# EAGLE library part WIPHONE_DAUGHTERBOARD (library DaughterBoard Footprint-v0.1)
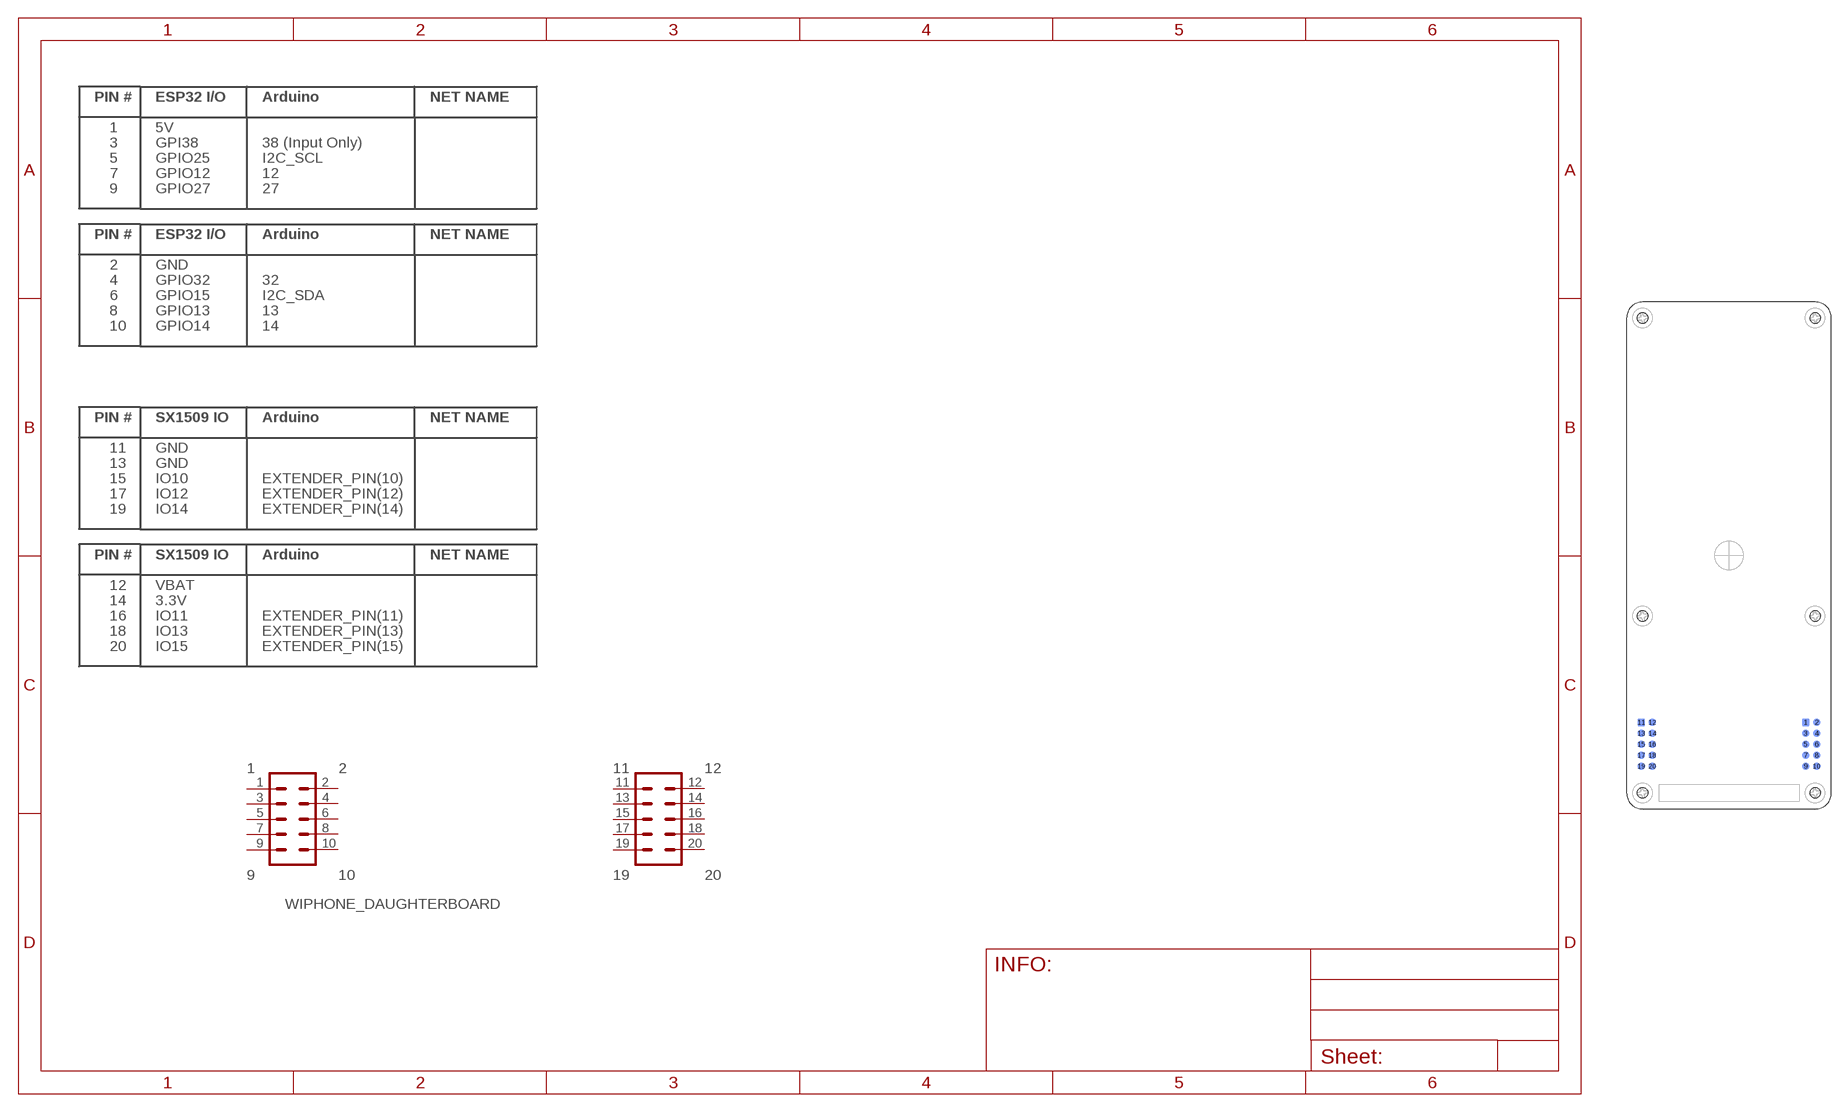
[diagram p0: symbol with the pads of WIPHONE_DAUGHTERBOARD-NLOGO; footprint WIPHONE_DAUGHTERBOARD-NLOGO]

Designator prefix WIPHONE_DAUGHTERBOARD-FOOTPRINT

## WIPHONE_DAUGHTERBOARD  [WIPHONE_DAUGHTERBOARD-NLOGO]
1  1  pwr
2  2  pwr
3  3
4  4
5  5
6  6
7  7
8  8
9  9
10  10
11  11  pwr
12  12  pwr
13  13  pwr
14  14  pwr
15  15
16  16
17  17
18  18
19  19
20  20

## Footprint WIPHONE_DAUGHTERBOARD-NLOGO (pad centres in mm)
smd 1.75 x 1.75 bottom: 1 17.78,-38.66; 2 20.32,-38.66; 3 17.78,-41.2; 4 20.32,-41.2; 5 17.78,-43.74; 6 20.32,-43.74; 7 17.78,-46.28; 8 20.32,-46.28; 9 17.78,-48.82; 10 20.32,-48.82; 11 -20.32,-38.66; 12 -17.78,-38.66; 13 -20.32,-41.2; 14 -17.78,-41.2; 15 -20.32,-43.74; 16 -17.78,-43.74; 17 -20.32,-46.28; 18 -17.78,-46.28; 19 -20.32,-48.82; 20 -17.78,-48.82
hole 2.4 at 20,-54.991
hole 2.4 at -20,-54.991
hole 2.4 at 20,-13.991
hole 2.4 at 20,55.009
hole 2.4 at -20,55.009
hole 2.4 at -20,-13.991